# Altium footprint library QFN-16(4.0X4.0).PcbLib: 1 footprints
Each footprint in its own frame and in the unit in brackets; x right, y up, seen from the top. Pads: shape width x height; smd on the part's side, far side on the other; paste and mask are expansions set on the pad; w line width, h text height; cw(c..) or ccw(c..) is an arc to the next point about the centre after c.
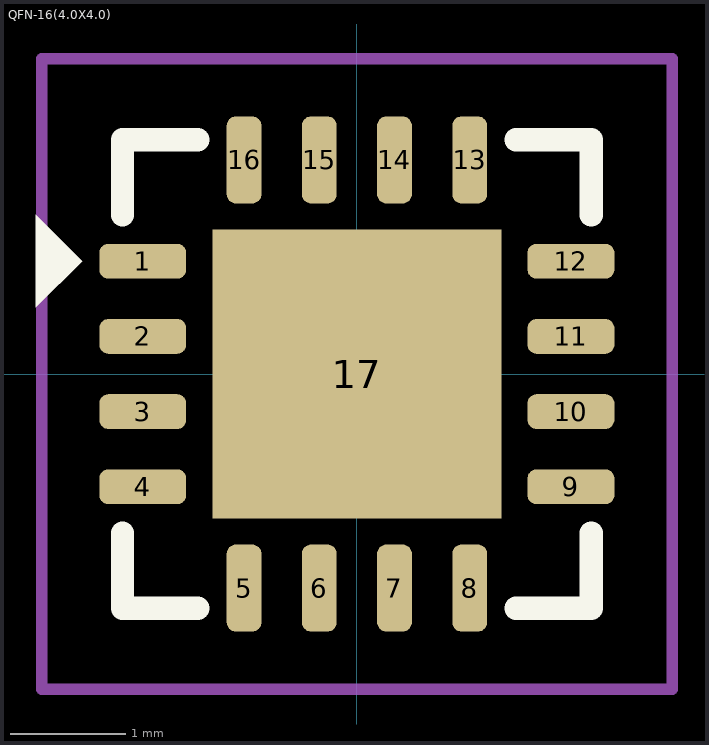
[diagram p0: the footprint, top view; thin cyan lines are the x and y axes]

## QFN-16(4.0X4.0) [mm]
height 0.7
pads (17):
  rrect50% 0.75x0.3 smd: 1(-1.85,0.975) 2(-1.85,0.325) 3(-1.85,-0.325) 4(-1.85,-0.975) 9(1.85,-0.975) 10(1.85,-0.325) 11(1.85,0.325) 12(1.85,0.975)
  rrect50% 0.3x0.75 smd: 5(-0.975,-1.85) 6(-0.325,-1.85) 7(0.325,-1.85) 8(0.975,-1.85) 13(0.975,1.85) 14(0.325,1.85) 15(-0.325,1.85) 16(-0.975,1.85)
  rect 2.5x2.5 smd: 17(0,0)
Top Overlay:
  region: -2.775,0.575 -2.775,1.375 -2.375,0.975
  lines w0.2: -2.025,-1.375 -2.025,-2.025 -1.375,-2.025 ; -2.025,1.375 -2.025,2.025 -1.375,2.025 ; 1.375,-2.025 2.025,-2.025 2.025,-1.375 ; 1.375,2.025 2.025,2.025 2.025,1.375
Top Courtyard:
  lines w0.1: -2.725,-2.725 2.725,-2.725 2.725,2.725 -2.725,2.725 -2.725,-2.725
3D body "QFN65P400X400X70_HS-17L.step": height 0.7, standoff 0, extent -2.01,-2.01 2.01,2.01